# Altium footprint library main.PcbLib: 30 footprints (part 2 of 2)
Each footprint in its own frame and in the unit in brackets; x right, y up, seen from the top. Pads: shape width x height; smd on the part's side, far side on the other; paste and mask are expansions set on the pad; w line width, h text height; cw(c..) or ccw(c..) is an arc to the next point about the centre after c.
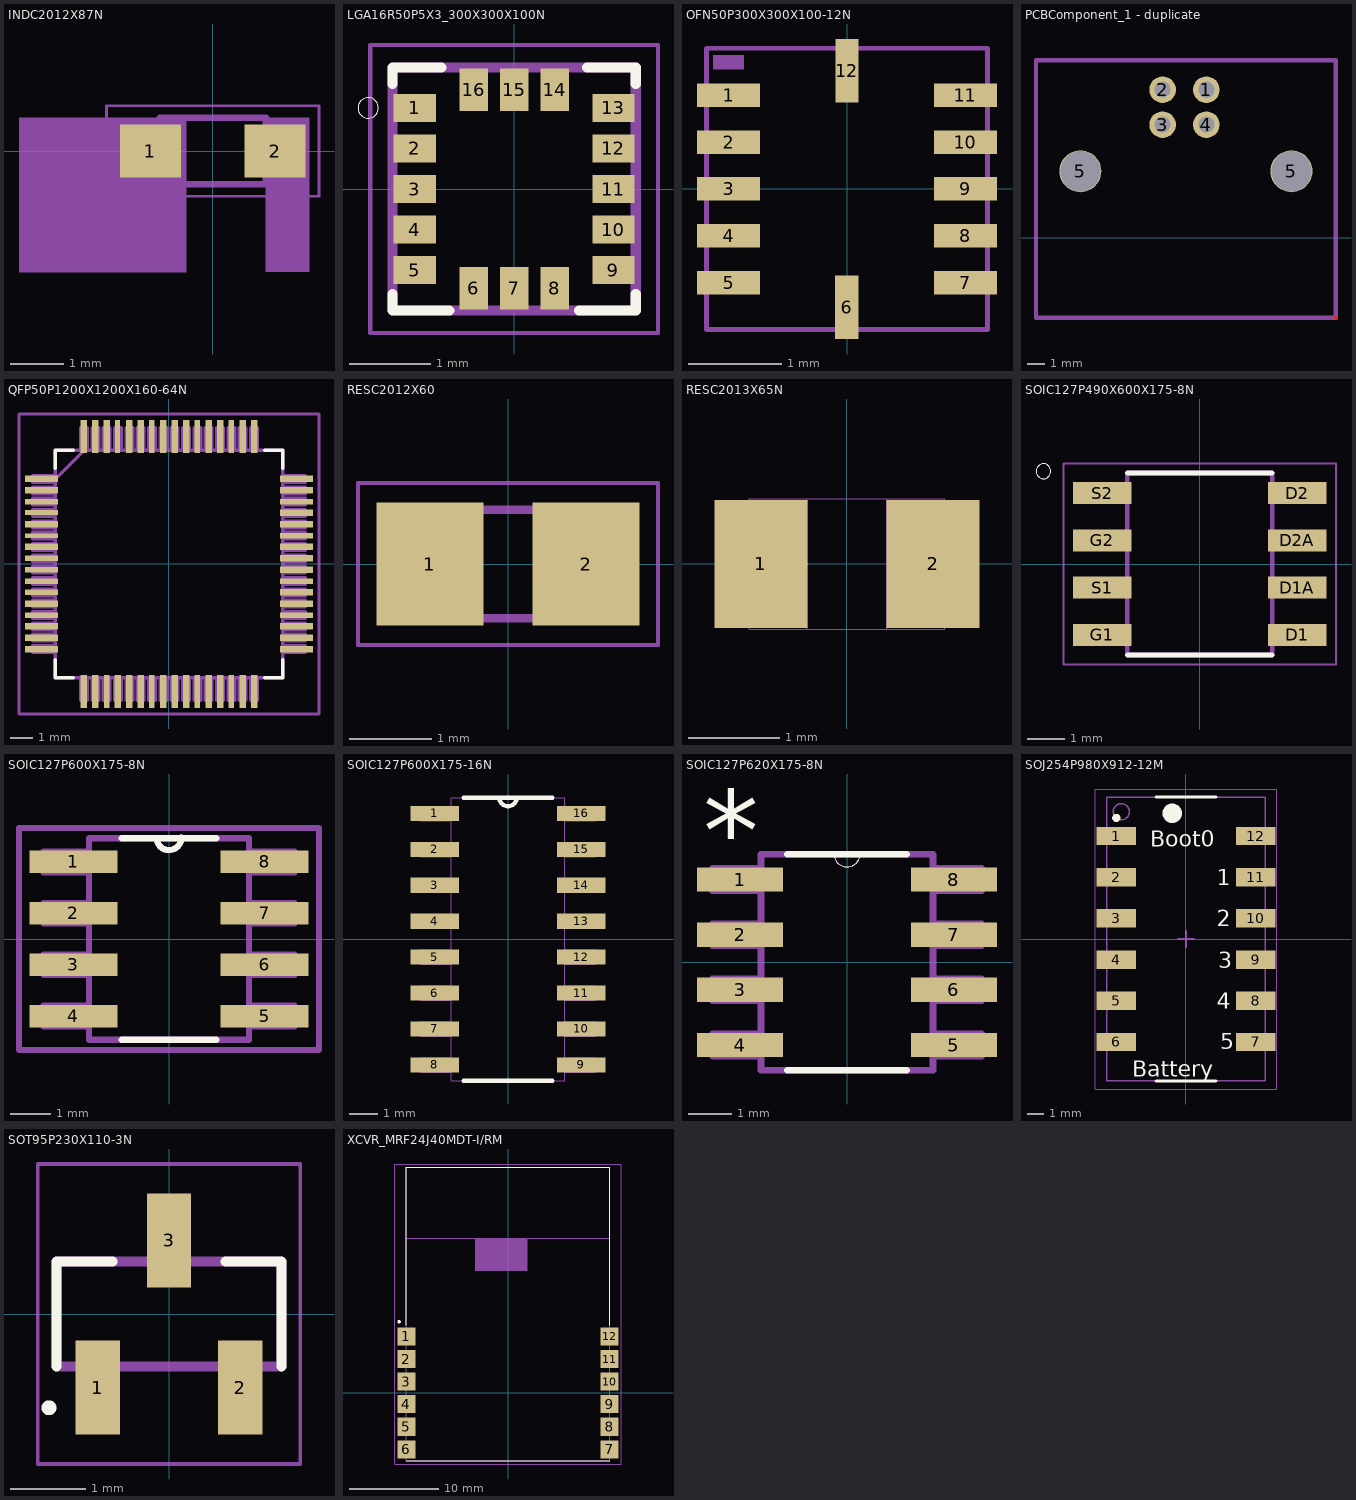
[diagram p1: the footprints below, top view; thin cyan lines are the x and y axes]

## INDC2012X87N [mm]
pads (2):
  rect 1.15x1 smd: 1(-1.175,0) 2(1.175,0)
Mechanical 1:
  region: 1.818,0.625 1,0.625 1,-2.273 1.818,-2.273
  region: -3.649,0.625 -0.5,0.625 -0.5,-2.281 -3.649,-2.281
  lines w0.051: -2,-0.85 -2,0.85 2,0.85 2,-0.85 -2,-0.85
  lines w0.127: -1,-0.625 -1,0.625 1,0.625 1,-0.625 -1,-0.625

## LGA16R50P5X3_300X300X100N [mm]
pads (16):
  rect 0.52x0.35 smd: 1(-1.225,1) 2(-1.225,0.5) 3(-1.225,0) 4(-1.225,-0.5) 5(-1.225,-1) 9(1.225,-1) 10(1.225,-0.5) 11(1.225,0) 12(1.225,0.5) 13(1.225,1)
  rect 0.35x0.52 smd: 6(-0.5,-1.225) 7(0,-1.225) 8(0.5,-1.225) 14(0.5,1.225) 15(0,1.225) 16(-0.5,1.225)
Top Overlay:
  circle w0: c-1.8,1 r0.126
  lines w0.127: -1.5,-1.3 -1.5,-1.5 -0.8,-1.5 ; -1.5,1.3 -1.5,1.5 -0.9,1.5 ; 0.8,-1.5 1.5,-1.5 1.5,-1.3 ; 0.9,1.5 1.5,1.5 1.5,1.3
Top Solder:
  region: -0.28,1.53 -0.28,0.92 -0.72,0.92 -0.72,1.53
  region: 0.219,1.531 0.219,0.921 -0.219,0.921 -0.219,1.531
  region: 0.72,1.53 0.72,0.92 0.28,0.92 0.28,1.53
  region: -0.72,-1.53 -0.72,-0.92 -0.28,-0.92 -0.28,-1.53
  region: -0.222,-1.532 -0.222,-0.921 0.221,-0.921 0.221,-1.532
  region: 0.279,-1.531 0.279,-0.921 0.721,-0.921 0.721,-1.531
  region: 1.53,-1.22 0.92,-1.22 0.92,-0.78 1.53,-0.78
  region: 1.53,0.781 0.921,0.781 0.921,1.22 1.53,1.22
  region: 1.53,0.28 0.92,0.28 0.92,0.72 1.53,0.72
  region: 1.53,-0.22 0.92,-0.22 0.92,0.22 1.53,0.22
  region: 1.53,-0.721 0.921,-0.721 0.921,-0.28 1.53,-0.28
  region: -1.532,-0.78 -0.92,-0.78 -0.92,-1.222 -1.532,-1.222
  region: -1.53,-0.28 -0.92,-0.28 -0.92,-0.72 -1.53,-0.72
  region: -1.532,0.22 -0.92,0.22 -0.92,-0.22 -1.532,-0.22
  region: -1.531,0.72 -0.92,0.72 -0.92,0.28 -1.531,0.28
  region: -1.531,1.22 -0.92,1.22 -0.92,0.781 -1.531,0.781
Mechanical 1:
  lines w0.05: -1.775,-1.775 1.775,-1.775 1.775,1.775 -1.775,1.775 -1.775,-1.775
  lines w0.127: -1.5,-1.5 1.5,-1.5 1.5,1.5 -1.5,1.5 -1.5,-1.5

## OFN50P300X300X100-12N [mm]
pads (12):
  rect 0.675x0.25 smd: 1(-1.263,1) 2(-1.263,0.5) 3(-1.263,0) 4(-1.263,-0.5) 5(-1.263,-1) 7(1.263,-1) 8(1.263,-0.5) 9(1.263,0) 10(1.263,0.5) 11(1.263,1)
  rect 0.25x0.675 smd: 6(-0.001,-1.263) 12(0,1.262)
Mechanical 1:
  region: -1.428,1.425 -1.1,1.425 -1.1,1.277 -1.428,1.277
  lines w0.05: -1.5,-1.5 -1.5,1.5 1.5,1.5 1.5,-1.5 -1.5,-1.5

## PCBComponent_1 - duplicate [mil]
pads (6):
  round 60 hole 36.22: 1(608.43,333.62) 2(510,333.74) 3(510,255) 4(608.43,255)
  round 94.49 hole 90.55: 5(325,150) 5(800,150)
Top Layer:
  lines w10: 900,-179.45 900.28,-179.72
Mechanical 1:
  lines w10: 900,-179.45 900,400 225,400 225,150 225,-179.72 900.28,-179.72

## QFP50P1200X1200X160-64N [mil]
pads (64):
  rect 58x11 smd: 1(-221,148) 2(-221,128) 5(-221,69) 7(-221,30) 12(-221,-69) 14(-221,-108) 15(-221,-128) 16(-221,-148) 33(221,-148) 34(221,-128) 35(221,-108) 37(221,-69) 38(221,-49) 40(221,-10) 41(221,10) 42(221,30) 44(221,69) 45(221,89) 47(221,128) 48(221,148)
  rect 58x9 smd: 3(-221,108) 4(-221,89) 8(-221,10) 9(-221,-10) 10(-221,-30) 11(-221,-49) 13(-221,-89) 36(221,-89) 39(221,-30) 43(221,49) 46(221,108)
  rect 58x8 smd: 6(-221,49)
  rect 11x58 smd: 17(-148,-221) 18(-128,-221) 20(-89,-221) 21(-69,-221) 22(-49,-221) 24(-10,-221) 25(10,-221) 26(30,-221) 28(69,-221) 29(89,-221) 31(128,-221) 32(148,-221) 49(148,221) 50(128,221) 52(89,221) 53(69,221) 55(30,221) 56(10,221) 57(-10,221) 59(-49,221) 60(-69,221) 62(-108,221) 63(-128,221) 64(-148,221)
  rect 9x58 smd: 19(-108,-221) 23(-30,-221) 27(49,-221) 30(108,-221) 51(108,221) 54(49,221) 58(-30,221) 61(-89,221)
Top Overlay:
  lines w6: -197,-166 -197,-197 -166,-197 ; -197,166 -197,197 -166,197 ; 166,-197 197,-197 197,-166 ; 166,197 197,197 197,166
Mechanical 1:
  drawing of 267 lines, arcs and shapes, not listed

## RESC2012X60 [mm]
pads (2):
  rect 1.3x1.5 smd: 1(-0.95,0) 2(0.95,0)
Mechanical 1:
  region: 0.356,0.726 1.106,0.726 1.106,-0.726 0.356,-0.726
  region: -1.094,0.726 -0.342,0.726 -0.342,-0.725 -1.094,-0.725
  lines w0.051: -1.823,-0.983 -1.823,0.983 1.823,0.983 1.823,-0.983 -1.823,-0.983
  lines w0.102: -0.381,0.66 0.381,0.66 ; -0.356,-0.66 0.381,-0.66

## RESC2013X65N [mil]
pads (2):
  rect 40x55 smd: 1(-37,0) 2(37,0)
Mechanical 1:
  lines w0: -17,-28 -17,28 ; -17,-28 -42,-28 -42,28 -17,28 ; -17,-28 17,-28 ; -17,28 17,28 ; 17,-28 17,28 ; 17,-28 42,-28 42,28 17,28

## SOIC127P490X600X175-8N [mm]
pads (8):
  rect 1.58x0.59 smd: D1(2.625,-1.905) D1A(2.625,-0.635) D2(2.625,1.905) D2A(2.625,0.635) G1(-2.625,-1.905) G2(-2.625,0.635) S1(-2.625,-0.635) S2(-2.625,1.905)
Top Overlay:
  circle w0: c-4.205,2.495 r0.2
  lines w0.127: -1.95,-2.45 1.95,-2.45 ; -1.95,2.45 1.95,2.45
Mechanical 1:
  circle w0: c-4.205,2.495 r0.2
  lines w0.05: -3.665,-2.7 -3.665,2.7 3.665,2.7 3.665,-2.7 -3.665,-2.7
  lines w0.127: -1.95,-2.45 -1.95,2.45 1.95,2.45 1.95,-2.45 -1.95,-2.45

## SOIC127P600X175-8N [mil]
pads (8):
  rect 86x22 smd: 1(-93,75) 2(-93,25) 3(-93,-25) 4(-93,-75) 5(93,-75) 6(93,-25) 7(93,25) 8(93,75)
Top Overlay:
  lines w6: -46,-98 46,-98 ; -46,98 -12,98 46,98 ; -12,98.08 ccw(c0,98.5) 12,98.92
Mechanical 1:
  lines w6: -12,98.08 ccw(c0,98.5) 12,98.92 ; -146,-108 -146,108 146,108 146,-108 -146,-108 ; -122,-85 -78,-85 -78,-65 -122,-65 -122,-85 ; -122,-35 -78,-35 -78,-15 -122,-15 -122,-35 ; -122,15 -78,15 -78,35 -122,35 -122,15 ; -122,65 -78,65 -78,85 -122,85 -122,65 ; -78,-98 -78,98 -12,98 78,98 78,-98 -78,-98 ; 78,-85 122,-85 122,-65 78,-65 78,-85 ; 78,-35 122,-35 122,-15 78,-15 78,-35 ; 78,15 122,15 122,35 78,35 78,15 ; 78,65 122,65 122,85 78,85 78,65

## SOIC127P600X175-16N [mil]
pads (16):
  rect 67x21 smd: 1(-102,175) 2(-102,125) 3(-102,75) 4(-102,25) 5(-102,-25) 6(-102,-75) 7(-102,-125) 8(-102,-175) 9(102,-175) 10(102,-125) 11(102,-75) 12(102,-25) 13(102,25) 14(102,75) 15(102,125) 16(102,175)
Top Overlay:
  lines w6: -62,-197 62,-197 ; -62,197 -12,197 ; 62,197 12,197 ; -12,197 ccw(c0,197) 12,197 ; -12,197 12,197
Mechanical 1:
  lines w0: -12,197 ccw(c0,197) 12,197 ; -12,197 -79,197 -79,-197 79,-197 79,197 12,197 ; -12,197 12,197 ; -122,-185 -79,-185 -79,-165 -122,-165 -122,-185 ; -122,-135 -79,-135 -79,-115 -122,-115 -122,-135 ; -122,-85 -79,-85 -79,-65 -122,-65 -122,-85 ; -122,-35 -79,-35 -79,-15 -122,-15 -122,-35 ; -122,15 -79,15 -79,35 -122,35 -122,15 ; -122,65 -79,65 -79,85 -122,85 -122,65 ; -122,115 -79,115 -79,135 -122,135 -122,115 ; -122,165 -79,165 -79,185 -122,185 -122,165 ; 79,-185 122,-185 122,-165 79,-165 79,-185 ; 79,-135 122,-135 122,-115 79,-115 79,-135 ; 79,-85 122,-85 122,-65 79,-65 79,-85 ; 79,-35 122,-35 122,-15 79,-15 79,-35 ; 79,15 122,15 122,35 79,35 79,15 ; 79,65 122,65 122,85 79,85 79,65 ; 79,115 122,115 122,135 79,135 79,115 ; 79,165 122,165 122,185 79,185 79,165

## SOIC127P620X175-8N [mil]
pads (8):
  rect 78x22 smd: 1(-97,75) 2(-97,25) 3(-97,-25) 4(-97,-75) 5(97,-75) 6(97,-25) 7(97,25) 8(97,75)
Top Overlay:
  lines w0: -12,98.08 ccw(c0,98.5) 12,98.92
  lines w6: -54,-98 54,-98 ; -54,98 -12,98 54,98
  text "*" at -130.36,82.41 h73.82
Mechanical 1:
  lines w0: -12,98.08 ccw(c0,98.5) 12,98.92
  lines w6: -122,-85 -78,-85 -78,-65 -122,-65 -122,-85 ; -122,-35 -78,-35 -78,-15 -122,-15 -122,-35 ; -122,15 -78,15 -78,35 -122,35 -122,15 ; -122,65 -78,65 -78,85 -122,85 -122,65 ; -78,-98 -78,98 -12,98 78,98 78,-98 -78,-98 ; 78,-85 122,-85 122,-65 78,-65 78,-85 ; 78,-35 122,-35 122,-15 78,-15 78,-35 ; 78,15 122,15 122,35 78,35 78,15 ; 78,65 122,65 122,85 78,85 78,65
  text "*" at -130.08,82.21 h73.82

## SOJ254P980X912-12M [mm]
pads (12):
  rect 2.44x1.13 smd: 1(-4.3,6.35) 2(-4.3,3.81) 3(-4.3,1.27) 4(-4.3,-1.27) 5(-4.3,-3.81) 6(-4.3,-6.35) 7(4.3,-6.35) 8(4.3,-3.81) 9(4.3,-1.27) 10(4.3,1.27) 11(4.3,3.81) 12(4.3,6.35)
Top Overlay:
  circle w0.25: c-4.3,7.465 r0.125
  circle w0.6: c-0.85,7.75 r0.3
  lines w0.2: -1.85,-8.75 1.85,-8.75 ; -1.85,8.75 1.85,8.75
  text "Battery" at -3.3,-8.5 h1
  text "5" at 2.1,-6.8 h1
  text "4" at 1.9,-4.3 h1
  text "3" at 2,-1.8 h1
  text "2" at 1.9,0.8 h1
  text "1" at 1.9,3.3 h1
  text "Boot0" at -2.2,5.7 h1
Mechanical 13:
  circle w0.1: c-3.99,7.85 r0.5
  lines w0.1: -4.89,-8.75 -4.89,8.75 4.89,8.75 4.89,-8.75 -4.89,-8.75
Mechanical 15:
  lines w0.05: -5.6,-9.25 -5.6,9.25 5.6,9.25 5.6,-9.25 -5.6,-9.25
  lines w0.1: -0.5,0 0.5,0 ; 0,-0.5 0,0.5
3D body: height 9.12, standoff 1.02, extent -4.89,-8.75 4.89,8.75

## SOT95P230X110-3N [mm]
pads (3):
  rect 0.59x1.26 smd: 1(-0.95,-0.98) 2(0.95,-0.98) 3(0,0.98)
Top Overlay:
  circle w0.1: c-1.6,-1.25 r0.05
  lines w0.127: -1.5,-0.7 -1.5,0.7 -0.75,0.7 ; 0.75,0.7 1.5,0.7 1.5,-0.7
Mechanical 1:
  lines w0.05: -1.75,-2 -1.75,2 1.75,2 1.75,-2 -1.75,-2
  lines w0.127: -1.5,-0.7 1.5,-0.7 1.5,0.7 -1.5,0.7 -1.5,-0.7

## XCVR_MRF24J40MDT-I/RM [mil]
pads (12):
  rect 80x80 smd: 1(-450,250) 2(-450,150) 3(-450,50) 4(-450,-50) 5(-450,-150) 6(-450,-250) 7(450,-250) 8(450,-150) 9(450,-50) 10(450,50) 11(450,150) 12(450,250)
Top Overlay:
  circle w7.87: c-482.28,314.96 r3.94
  lines w5: -450,-300 450,-300 ; -450,300 -450,1000 450,1000 450,300
Mechanical 1:
  region: -145.1,685 85,685 85,540.36 -145.1,540.36
  region: -145.04,685 85,685 85,540.13 -145.04,540.13
  region: -145.06,685 85,685 85,540.24 -145.06,540.24
  lines w1.97: -501.97,-314.96 -501.97,1013.78 501.97,1013.78 501.97,-314.96 -501.97,-314.96
  lines w5: -450,685 450,685 ; -450,685 -450,1000 450,1000 450,685 ; -450,685 -450,-300 450,-300 450,685
  text "PCB EDGE" at -440.56,640.99 h73.82